# EAGLE library part MRF24J40MA (library pfo)
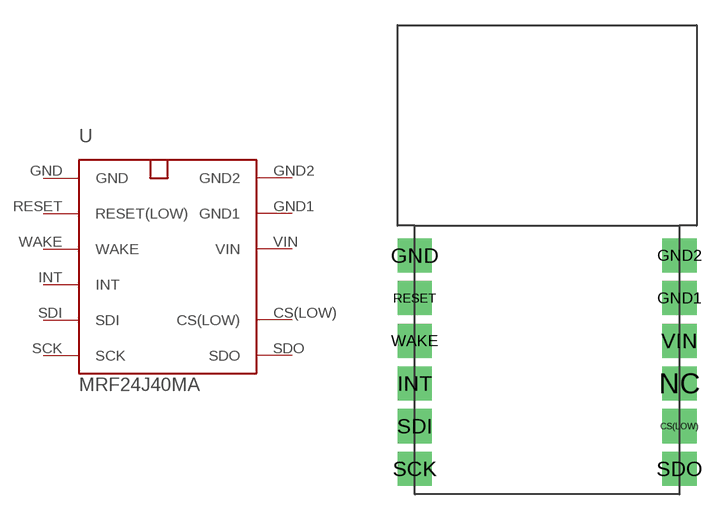
[diagram p2: symbol with the pads of MRF24J40MA; footprint MRF24J40MA]

Designator prefix U

## MRF24J40MA  [MRF24J40MA]
CS(LOW)  CS(LOW)
GND  GND
GND1  GND1
GND2  GND2
INT  INT
RESET  RESET(LOW)
SCK  SCK
SDI  SDI
SDO  SDO
VIN  VIN
WAKE  WAKE

## Footprint MRF24J40MA (pad centres in mm)
drill 0.8 pad 2.032 square: CS(LOW) 15.748,4.064; GND 0,14.224; GND1 15.748,11.684; GND2 15.748,14.224; INT 0,6.604; NC 15.748,6.604; RESET 0,11.684; SCK 0,1.524; SDI 0,4.064; SDO 15.748,1.524; VIN 15.748,9.144; WAKE 0,9.144